# Altium schematic symbol library TSR-0-5-2450.SchLib: 1 symbol
Pins are listed as number, name and electrical type; pins without a type are passive.

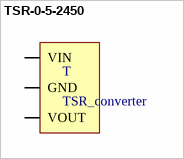
[diagram p0: symbol TSR-0-5-2450]

## TSR-0-5-2450
designator T, comment TSR_converter
footprint PCBComponent_1
pins: 1 VIN "6.5-32 VDC IN", 2 GND, 3 VOUT "5V 0.5A OUT"